# Altium schematic symbol library SKY13317-373LF.Schlib: 1 symbol
Pins are listed as number, name and electrical type; pins without a type are passive.

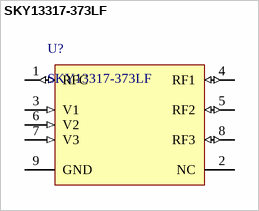
[diagram p0: symbol SKY13317-373LF]

## SKY13317-373LF
designator U?
RF Switch IC 802.11a/b/g/WiFi, WLAN SP3T 6 GHz 50Ohm 8-MLP (1.5x1.5)
pins: 1 RFC (io), 2 NC, 3 V1 (in), 4 RF1 (io), 5 RF2 (io), 6 V2 (in), 7 V3 (in), 8 RF3 (io), 9 GND (power)